# EAGLE library part 418117170903 (library Wurth_Elektronik_Electromechanic_Switch_rev15d)
WS-BS 2.54 mm compact THT Dip Switch with flat actuator, 3 Pole
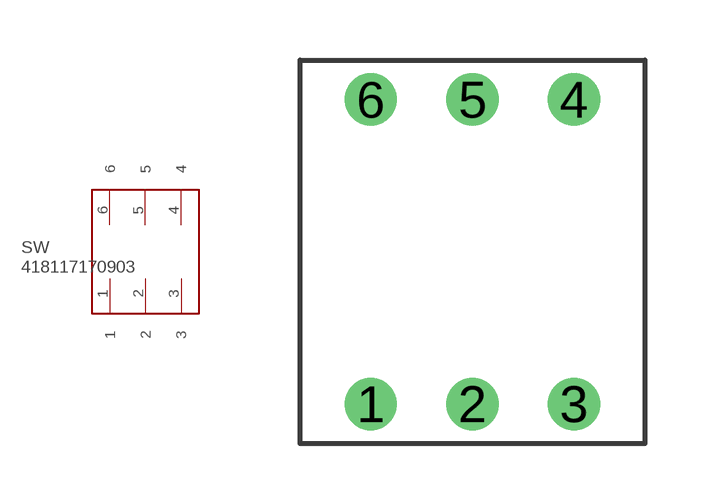
[diagram p67: symbol with the pads of 418117170903; footprint 418117170903]

Designator prefix SW

## 418117170903  [418117170903]
1  1
2  2
3  3
4  4
5  5
6  6

## Footprint 418117170903 (pad centres in mm)
WS-BS 2.54 mm compact THT Dip Switch with flat actuator, 3 Pole
drill 0.8: 1 -2.54,-3.81; 2 0,-3.81; 3 2.54,-3.81; 4 2.54,3.81; 5 0,3.81; 6 -2.54,3.81